# Altium footprint library TRIM_RM-065-502.PcbLib: 1 footprints
Each footprint in its own frame and in the unit in brackets; x right, y up, seen from the top. Pads: shape width x height; smd on the part's side, far side on the other; paste and mask are expansions set on the pad; w line width, h text height; cw(c..) or ccw(c..) is an arc to the next point about the centre after c.
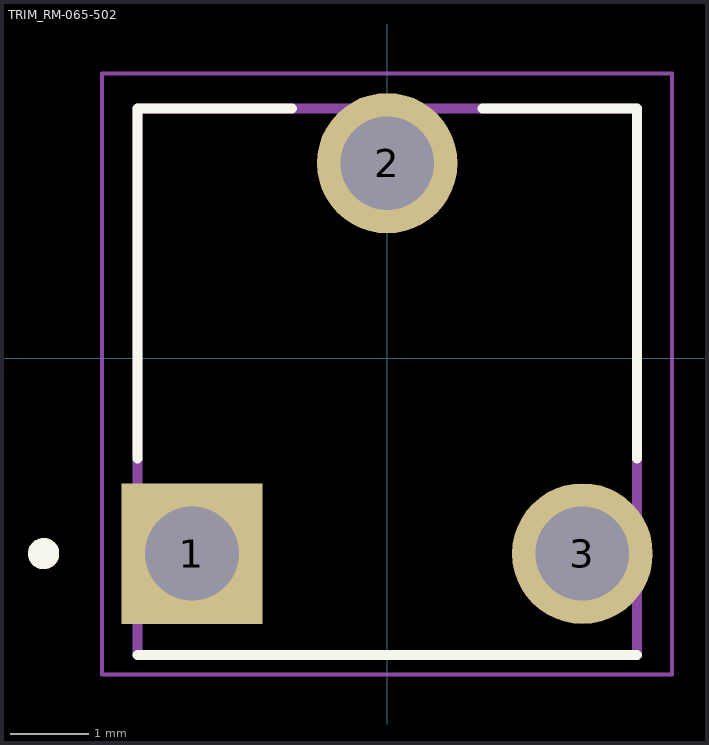
[diagram p0: the footprint, top view; thin cyan lines are the x and y axes]

## TRIM_RM-065-502 [mm]
height 7.5
pads (3):
  rect 1.8x1.8 / inner round 1.8 / far side rect 1.8x1.8 hole 1.2 mask+0.102: 1(-2.5,-2.5)
  round 1.8 hole 1.2 mask+0.102: 2(0,2.5) 3(2.5,-2.5)
Top Overlay:
  circle w0.2: c-4.4,-2.5 r0.1
  lines w0.127: -3.2,-3.8 3.2,-3.8 ; -3.2,-1.28 -3.2,3.2 -1.22,3.2 ; 1.22,3.2 3.2,3.2 3.2,-1.28
Assembly Top:
  circle w0.2: c-4.4,-2.5 r0.1
  lines w0.127: -3.2,-3.8 -3.2,3.2 3.2,3.2 3.2,-3.8 -3.2,-3.8
Courtyard Top:
  lines w0.05: -3.65,-4.05 3.65,-4.05 3.65,3.65 -3.65,3.65 -3.65,-4.05
3D body "Poti_10kohm.stp": height 10.44, standoff -1.39, extent -3.4,-3.507 3.4,3.377